# EAGLE library part PINHD-1X8 (library SaintGimp)
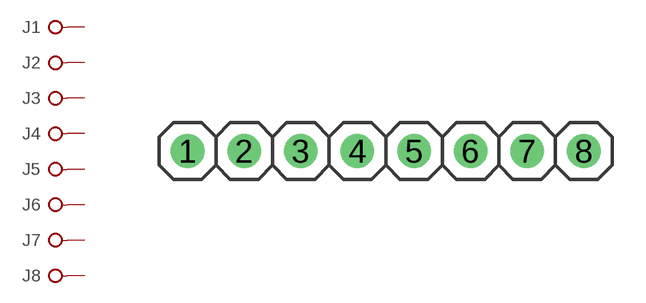
[diagram p12: symbol with the pads of 1X08; footprint 1X08]

Designator prefix J; gates 1=TERMINAL 2=TERMINAL 3=TERMINAL 4=TERMINAL 5=TERMINAL 6=TERMINAL 7=TERMINAL 8=TERMINAL

## PINHD-1X8  [1X08]
1  1:KL  pas
2  2:KL  pas
3  3:KL  pas
4  4:KL  pas
5  5:KL  pas
6  6:KL  pas
7  7:KL  pas
8  8:KL  pas

## Footprint 1X08 (pad centres in mm)
drill 1: 1 -8.89,0; 2 -6.35,0; 3 -3.81,0; 4 -1.27,0; 5 1.27,0; 6 3.81,0; 7 6.35,0; 8 8.89,0